# Altium footprint library TO127P1435X210-8N.PcbLib: 1 footprints
Each footprint in its own frame and in the unit in brackets; x right, y up, seen from the top. Pads: shape width x height; smd on the part's side, far side on the other; paste and mask are expansions set on the pad; w line width, h text height; cw(c..) or ccw(c..) is an arc to the next point about the centre after c.
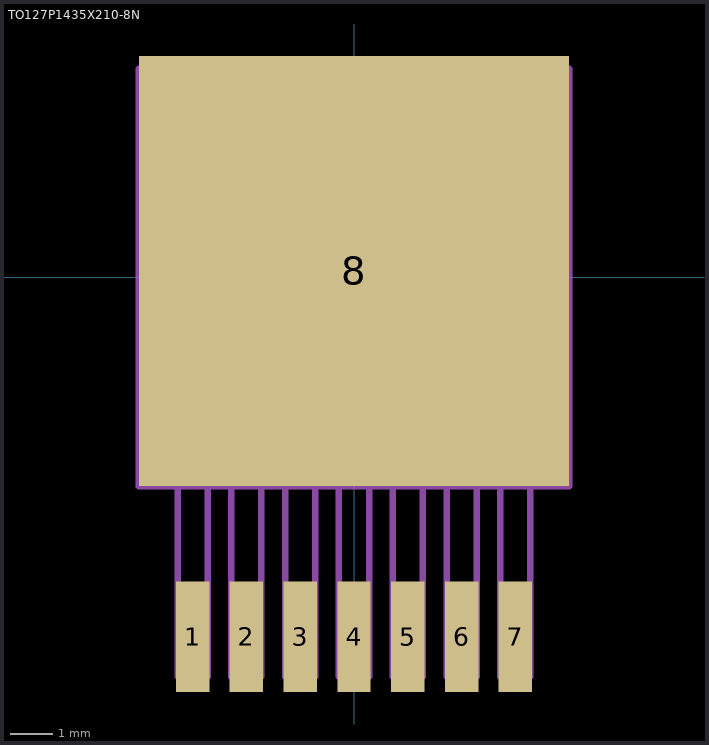
[diagram p0: the footprint, top view; thin cyan lines are the x and y axes]

## TO127P1435X210-8N [mil]
pads (8):
  rect 31x103 smd: 1(-150,-334) 2(-100,-334) 3(-50,-334) 4(0,-334) 5(50,-334) 6(100,-334) 7(150,-334)
  rect 400x400 smd: 8(0,6)
Mechanical 13:
  lines w6: -200,-194 -200,194 200,194 200,-194 -200,-194 ; -164,-371 -136,-371 -136,-194 -164,-194 -164,-371 ; -114,-371 -86,-371 -86,-194 -114,-194 -114,-371 ; -64,-371 -36,-371 -36,-194 -64,-194 -64,-371 ; -14,-371 14,-371 14,-194 -14,-194 -14,-371 ; 36,-371 64,-371 64,-194 36,-194 36,-371 ; 86,-371 114,-371 114,-194 86,-194 86,-371 ; 136,-371 164,-371 164,-194 136,-194 136,-371